# EAGLE library part EZ1 (library Sensor)
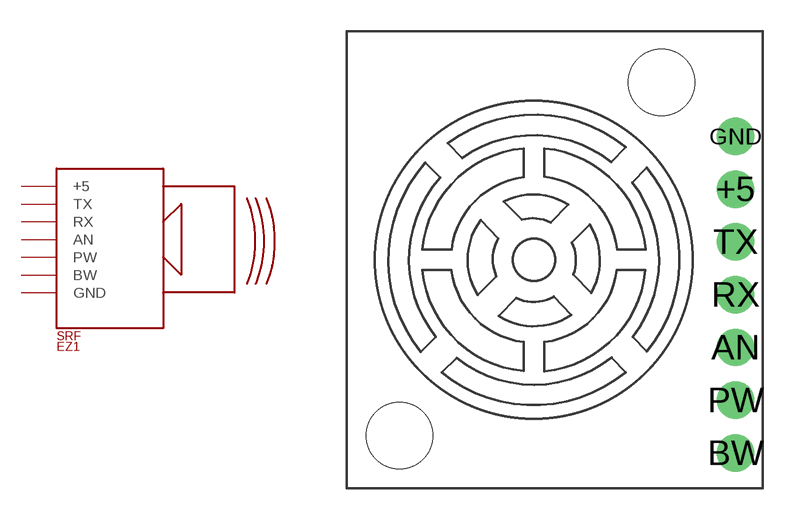
[diagram p0: symbol with the pads of EZ1; footprint EZ1]

Designator prefix SRF

## EZ1  [EZ1]
+5  +5
AN  AN
BW  BW
GND  GND
PW  PW
RX  RX
TX  TX

## Footprint EZ1 (pad centres in mm)
drill 1.2: +5 8.7,3.4; AN 8.7,-4.22; BW 8.7,-9.3; GND 8.7,5.94; PW 8.7,-6.76; RX 8.7,-1.68; TX 8.7,0.86
hole 3.2 at 5.14,8.54
hole 3.2 at -7.46,-8.46